# Altium schematic symbol library Lattice.SchLib: 3 symbols
Pins are listed as number, name and electrical type; pins without a type are passive.

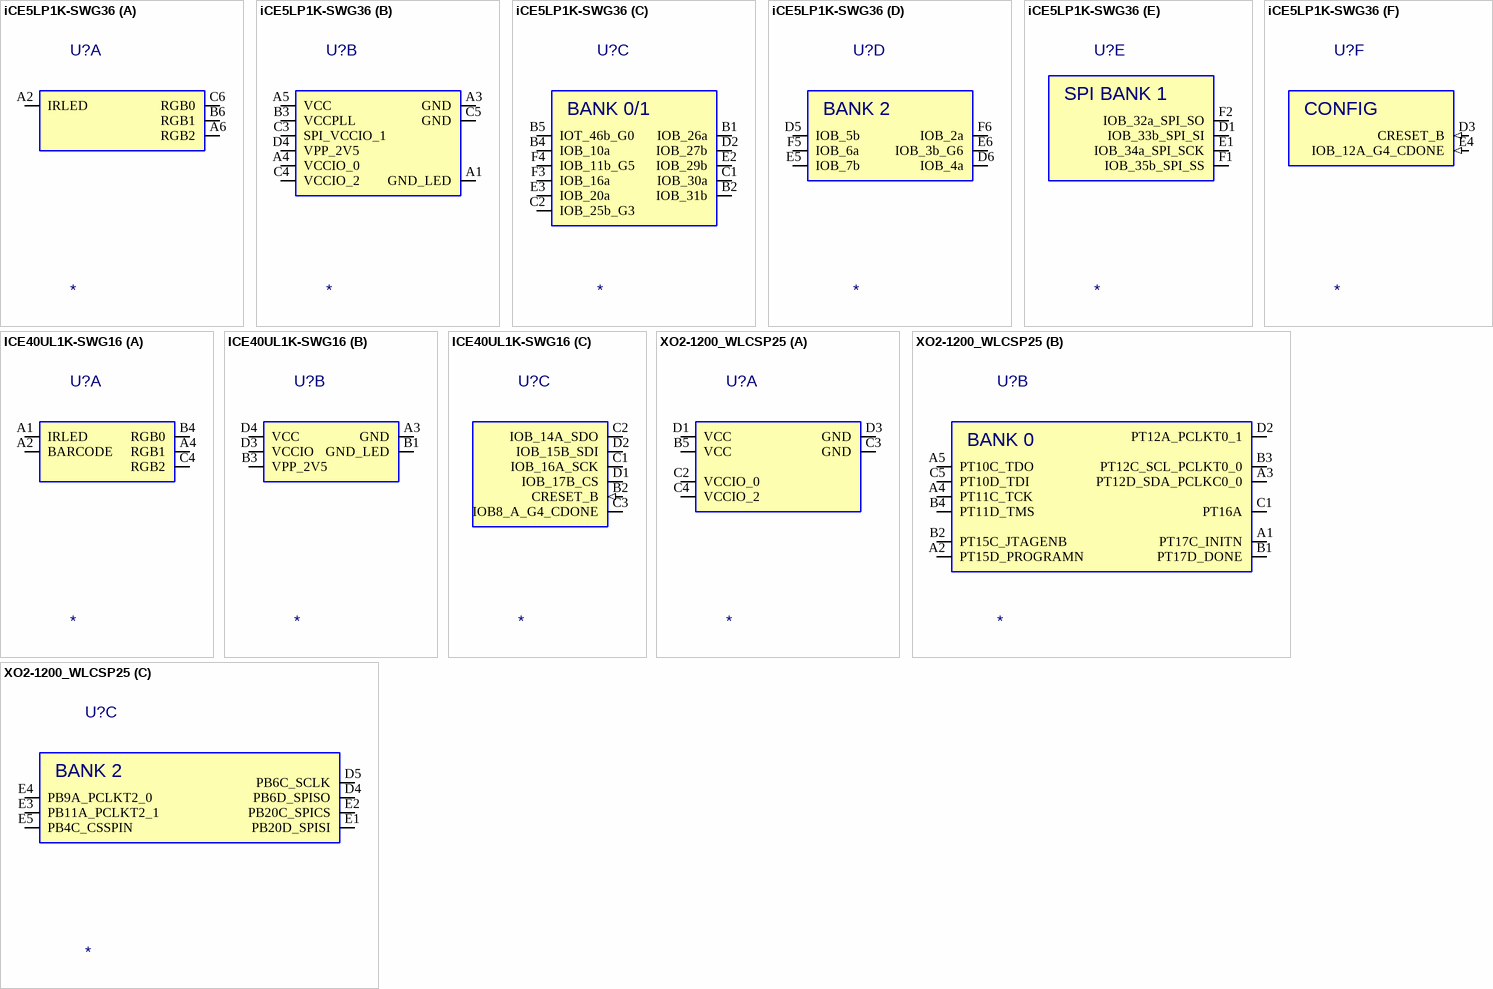
[diagram p0: symbols iCE5LP1K-SWG36 to XO2-1200_WLCSP25]

## iCE5LP1K-SWG36
designator U?
iCE40 Ultra FPGA
part A pins: A2 IRLED (oc), A6 RGB2 (oc), B6 RGB1 (oc), C6 RGB0 (oc)
part B pins: A1 GND_LED (power), A3 GND (power), A4 VCCIO_0 (power), A5 VCC (power), B3 VCCPLL (power), C3 SPI_VCCIO_1 (power), C4 VCCIO_2 (power), C5 GND (power), D4 VPP_2V5 (power)
part C pins: B1 IOB_26a (io), B2 IOB_31b (io), B4 IOB_10a (io), B5 IOT_46b_G0 (io), C1 IOB_30a (io), C2 IOB_25b_G3 (io), D2 IOB_27b (io), E2 IOB_29b (io), E3 IOB_20a (io), F3 IOB_16a (io), F4 IOB_11b_G5 (io)
part D pins: D5 IOB_5b (io), D6 IOB_4a (io), E5 IOB_7b (io), E6 IOB_3b_G6 (io), F5 IOB_6a (io), F6 IOB_2a (io)
part E pins: D1 IOB_33b_SPI_SI (io), E1 IOB_34a_SPI_SCK (io), F1 IOB_35b_SPI_SS (io), F2 IOB_32a_SPI_SO (io)
part F pins: D3 CRESET_B (in), E4 IOB_12A_G4_CDONE (in)
part C text: BANK 0/1
part D text: BANK 2
part E text: SPI BANK 1
part F text: CONFIG

## ICE40UL1K-SWG16
designator U?
iCE40 UltraLite FPGA
part A pins: A1 IRLED (oc), A2 BARCODE (oc), A4 RGB1 (oc), B4 RGB0 (oc), C4 RGB2 (oc)
part B pins: A3 GND (power), B1 GND_LED (power), B3 VPP_2V5 (power), D3 VCCIO (power), D4 VCC (power)
part C pins: B2 CRESET_B (in), C1 IOB_16A_SCK (io), C2 IOB_14A_SDO (io), C3 IOB8_A_G4_CDONE (io), D1 IOB_17B_CS (io), D2 IOB_15B_SDI (io)

## XO2-1200_WLCSP25
designator U?
Lattice Mach XO2-1200 FPGA in 25 Pin WLCSP
part A pins: B5 VCC (power), C2 VCCIO_0 (power), C3 GND (power), C4 VCCIO_2 (power), D1 VCC (power), D3 GND (power)
part B pins: A1 PT17C_INITN (io), A2 PT15D_PROGRAMN (io), A3 PT12D_SDA_PCLKC0_0 (io), A4 PT11C_TCK (io), A5 PT10C_TDO (io), B1 PT17D_DONE (io), B2 PT15C_JTAGENB (io), B3 PT12C_SCL_PCLKT0_0 (io), B4 PT11D_TMS (io), C1 PT16A (io), C5 PT10D_TDI (io), D2 PT12A_PCLKT0_1 (io)
part C pins: D4 PB6D_SPISO (io), D5 PB6C_SCLK (io), E1 PB20D_SPISI (io), E2 PB20C_SPICS (io), E3 PB11A_PCLKT2_1 (io), E4 PB9A_PCLKT2_0 (io), E5 PB4C_CSSPIN (io)
part B text: BANK 0
part C text: BANK 2